# EAGLE library part 74HC4060BQ,115 (library pimoroni-ics)
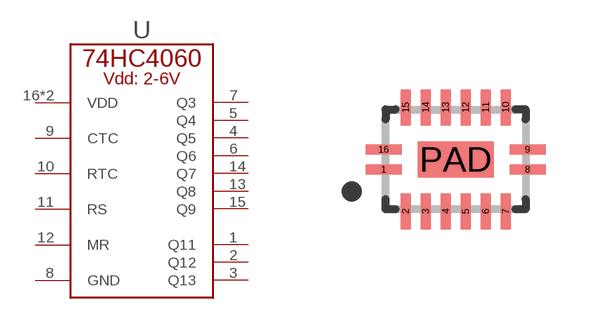
[diagram p137: symbol with the pads of DHVQFN16_SOT763-1; footprint DHVQFN16_SOT763-1]

Designator prefix U

## 74HC4060BQ,115  [DHVQFN16_SOT763-1]
1  Q11
2  Q12
3  Q13
4  Q5
5  Q4
6  Q6
7  Q3
8  GND
9  CTC
10  RTC
11  RS
12  MR
13  Q8
14  Q7
15  Q9
16  VDD
PAD  VDD

## Footprint DHVQFN16_SOT763-1 (pad centres in mm)
smd 0.9 x 0.25: 1 -1.8,-0.25; 8 1.8,-0.25; 9 1.8,0.25; 16 -1.8,0.25
smd 0.25 x 0.9: 2 -1.25,-1.3; 3 -0.75,-1.3; 4 -0.25,-1.3; 5 0.25,-1.3; 6 0.75,-1.3; 7 1.25,-1.3; 10 1.25,1.3; 11 0.75,1.3; 12 0.25,1.3; 13 -0.25,1.3; 14 -0.75,1.3; 15 -1.25,1.3
smd 1.9 x 0.9: PAD 0,0